# Altium integrated library TI Power Management Power Over Ethernet.IntLib: 76 symbols (part 8 of 9)
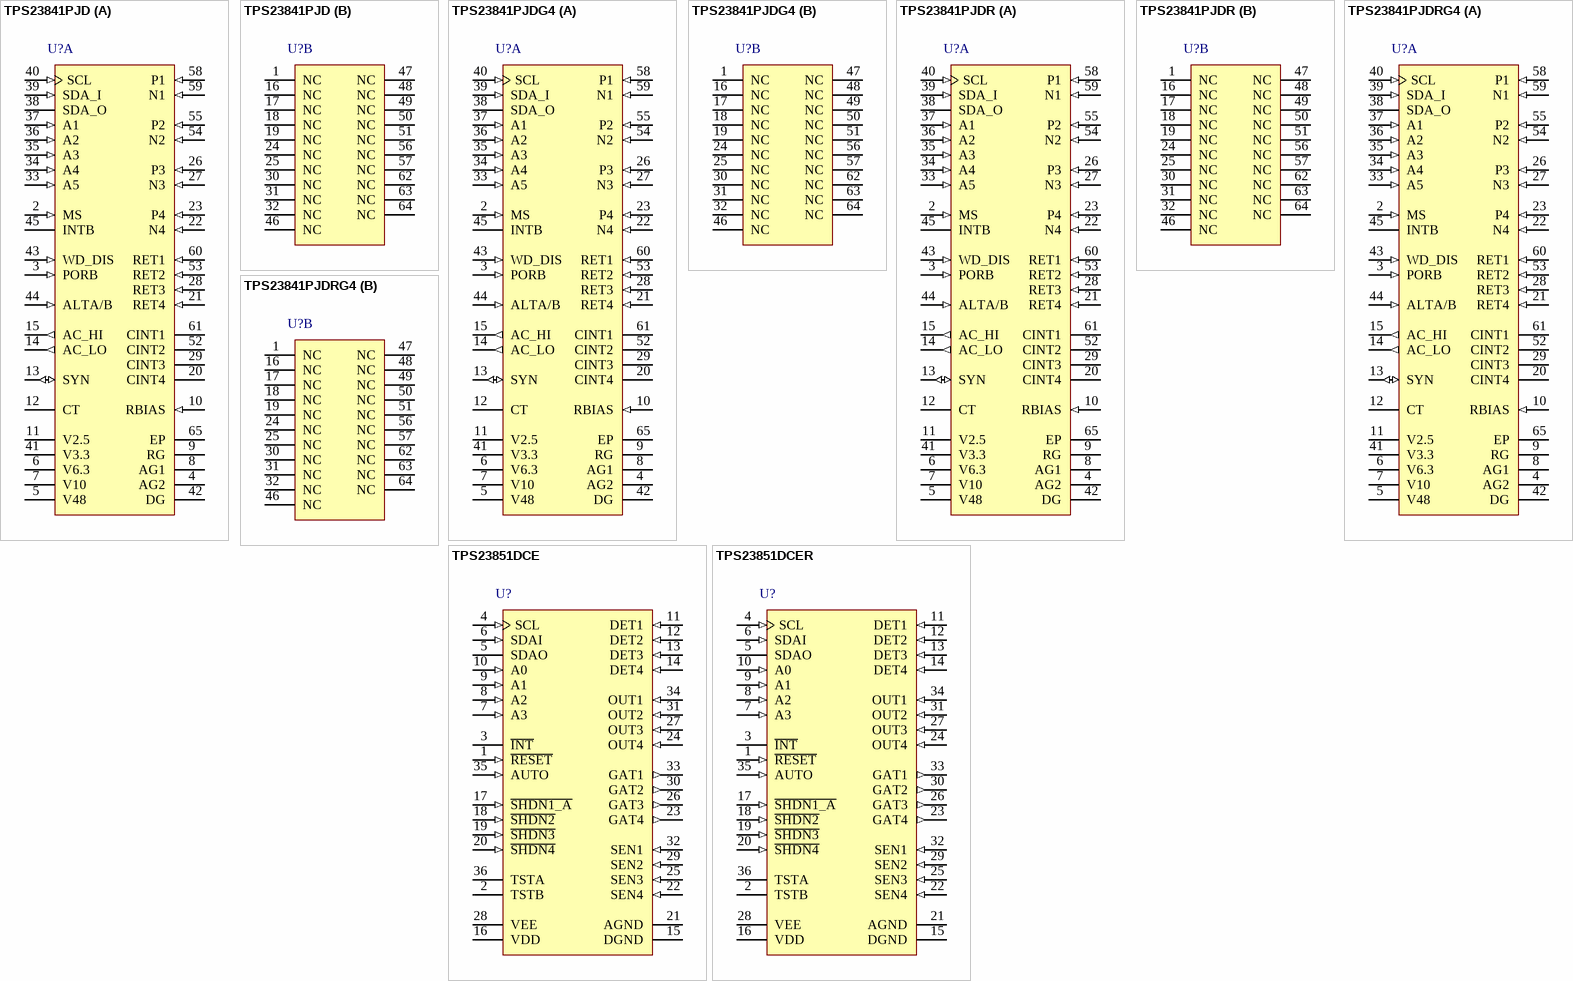
[diagram p10: symbols TPS23841PJD to TPS23851DCER]

## TPS23841PJDG4
designator U?
High Power Wide Voltage Range Quad Port Ethernet Power Sourcing Equipment Manager, -40 to 125 degC, 64-pin QFP (PJD64), Green (RoHS & no Sb/Br); Manufacturer: Texas Instruments; PartNumber: TPS23841PJDG4; Adjustable Current Limit(Min)(A): 0.571; Integrated FET: TRUE; No. of Outputs: 4; rDS(on) per FET(Typ)(mOhms): 1300; Vin(Max)(V): 57; Vin(Min)(V): 34; DatasheetVersion: SLUS745A; PackageVersion: 4147703/E; PackageReference: PJD64-5920X5920TP; PackageDescription: 64-Pin Power Pad Plastic Quad Flatpack (Die Down), Body 10 x 10 mm, Pitch 0.50 mm; Supplier 1: Digi-Key; Supplier Part Number 1: TPS23841PJDG4-ND; Supplier 2: Newark; Supplier Part Number 2: 28M7813; Supplier 3: Mouser; Supplier Part Number 3: 595-TPS23841PJDG4; Eco-Plan: Green (RoHS & no Sb/Br); Over Current Reporting: TRUE; Over Temp Reporting: TRUE; SubFamily: Power Sourcing Equipment; Mounting Technology: Surface Mount; Code_JEDEC: MS-026; ComponentLink1Description: Manufacturer URL; ComponentLink1URL: http://www.ti.com/; ComponentLink2Description: Datasheet; ComponentLink2URL: http://www.ti.com/general/docs/lit/getliterature.tsp?genericPartNumber=TPS23841&fileType=pdf; ComponentLink3Description: Package Specification; ComponentLink3URL: http://www.ti.com/litv/pdf/mpqf072d
footprint TI-PJD64-5920X5920TP_N (QFP, 64-Leads, Body 10x10mm, Pitch 0.5mm, Thermal Pad 5.92x5.92mm, IPC Medium Density)
footprint TI-PJD64-5920X5920TP_L (QFP, 64-Leads, Body 10x10mm, Pitch 0.5mm, Thermal Pad 5.92x5.92mm, IPC High Density)
footprint TI-PJD64-5920X5920TP_M (QFP, 64-Leads, Body 10x10mm, Pitch 0.5mm, Thermal Pad 5.92x5.92mm, IPC Low Density)
part A pins: 2 MS (in) "The MS pin selects either the auto mode (MS low) or the power management mode, PMM, (MS high). This pin can be held low for controller-less standalone applications. When MS is low and the POR timing cycle is complete the (See Datasheet)", 3 PORB (in) "This pin can be used to override the internal POR. When held low, the I2C interface, all the state machines, and registers are held in reset. When all internal and external supplies are withinspecification, and this pin is (See Datasheet)", 4 AG2 (power) "Analog ground 2. This is the analog ground which ties to the substrate and ESD structures of the device. It should be externally tied to the common copper 48-V return plane. AG1 and AG2 must be tied together directly for the (See Datasheet)", 5 V48 (power) "48-V input to the device. This supply can have a range of 22 V to 57 V. This pin should be decoupled with a 0.1-µF capacitor from V48 to AG1 placed as close to the device as possible.", 6 V6.3 (power) "6.3-V analog supply. A 0.1-µF de-coupling capacitor should terminate as close to this pin and the AG1 pin as possible. Do not use for an external supply.", 7 V10 (power) "10-V analog supply. The 10-V reference is generated internally and connects to the main internal analog power bus. A 0.1-µF de-coupling capacitor should terminate as close to this node and the AG1 pin as possible. Do not use (See Datasheet)", 8 AG1 (power) "Analog ground 1. This is the analog ground of the V6.3, V10 and V48 power systems. It should be externally tied to the common copper 48-V return plane. This pin should carry the low side of three de-coupling capacitors tied (See Datasheet)", 9 RG (power) "Reference ground. This is a precision sense of the external ground plane. The integration capacitor GND (CINT) and the biasing resistor (RBIAS pin) should be tied to this ground. This ground should also be used to form a (See Datasheet)", 10 RBIAS (in) "Bias set resistor. This resistor sets all precision bias currents within the chip. This pin will regulate to 1.25V (V2.5/2) when a resistor is connected between RBIAS and RG. This voltage and RBIAS generate a current which (See Datasheet)", 11 V2.5 (power) "2.5-V reference supply. The V2.5 is generated internally and connects to the internal reference power bus. This pin should not be tied to any external supplies. A 0.1-µF de-coupling capacitor should terminate as close to (See Datasheet)", 12 CT "This is a dual-purpose pin. When tied to an external capacitor this pin sets the internal clock. When the CT pin is grounded the SYN pin turns from a output to an input. The timing capacitor and the resistor on the RBIAS pin (See Datasheet)", 13 SYN (io) "This is a dual purpose pin. When the CT pin is connected to a timing capacitor this output pin is a 0v to 3.3V pulse of the internal clock which can be used to drive other TPS23841 SYN pins for elimination of a timing (See Datasheet)", 14 AC_LO (out) "Totem-pole output pin for AC Disconnect excitation.", 15 AC_HI (out) "Totem-pole output pin for AC Disconnect excitation.", 20 CINT4 "Integration capacitor. This capacitor is used for the ramp A/D converter signal integration. Connect A 0.027-µF capacitor from this pin to RG. To minimize errors use a polycarbonate, poly-polypropylene, polystyrene or teflon (See Datasheet)", 21 RET4 (in) "48 V return pin", 22 N4 (in) "Port negative. 48-V load return pin. The low side of the load is switched and protected by internal circuitry that will limit the current.", 23 P4 (in) "Port Positive. 48-V load sense pin. Terminal voltage is monitored and controlled differentially with respect to Port 4 pin Optionally, if the application warrants, this high side path can be protected with the use of a self (See Datasheet)", 26 P3 (in) "Port Positive. 48-V load sense pin. Terminal voltage is monitored and controlled differentially with respect to Port 3 pin Optionally, if the application warrants, this high side path can be protected with the use of a self (See Datasheet)", 27 N3 (in) "Port negative. 48-V load return pin. The low side of the load is switched and protected by internal circuitry that will limit the current.", 28 RET3 (in) "48 V return pin", 29 CINT3 "Integration capacitor. This capacitor is used for the ramp A/D converter signal integration. Connect A 0.027-µF capacitor from this pin to RG. To minimize errors use a polycarbonate, poly-polypropylene, polystyrene or teflon (See Datasheet)", 33 A5 (in) "Address 5 is the I2C address select inputs. Select the appropriate binary address on these pins by connecting to the chip ground for a logic low or tying to the V3.3 pin for a logic high. Each address line has an internal (See Datasheet)", 34 A4 (in) "Address 4 is the I2C address select inputs. Select the appropriate binary address on these pins by connecting to the chip ground for a logic low or tying to the V3.3 pin for a logic high. Each address line has an internal (See Datasheet)", 35 A3 (in) "Address 3 is the I2C address select inputs. Select the appropriate binary address on these pins by connecting to the chip ground for a logic low or tying to the V3.3 pin for a logic high. Each address line has an internal (See Datasheet)", 36 A2 (in) "Address 2 is the I2C address select inputs. Select the appropriate binary address on these pins by connecting to the chip ground for a logic low or tying to the V3.3 pin for a logic high. Each address line has an internal (See Datasheet)", 37 A1 (in) "Address 1 is the I2C address select inputs. Select the appropriate binary address on these pins by connecting to the chip ground for a logic low or tying to the V3.3 pin for a logic high. Each address line has an internal (See Datasheet)", 38 SDA_O (oc) "Serial data open drain output for the I2C interface. When tied to the SDA_I pin, this connection becomes the standard bi-directional serial data line (SDA). This is a open drain output that can directly drive opto-coupler.", 39 SDA_I (in) "Serial data input pin for the I2C interface. When tied to the SDA_O pin, this connection becomes the standard bi-directional serial data line (SDA)", 40 SCL (in) "Serial clock input pin for the I2C interface.", 41 V3.3 (power) "3.3-V logic supply. The 3.3-V supply is generated internally and connects to the internal logic power bus. A 0.1-uìF de coupling capacitor should terminate as close to this node and the DG pin as possible. This output can be (See Datasheet)", 42 DG (power) "Digital ground. This pin connects to the internal logic ground bus. It should be externally tied to the common copper 48-V return plane.", 43 WD_DIS (in) "The WD_DIS pin disables the watchdog timer function when connected to 3.3 V. The pin has internal 50-kohm. resistor to digital ground. The watchdog timer monitors the I2C clock pin (SCL) and the internal oscillator activity (See Datasheet)", 44 ALTA/B (in) "When this input is set to logic low there is no back-off time after a discovery failure. When this pin set to a logic high there is a back-off time (approximately 2 seconds) before initiating another discovery cycle. This (See Datasheet)", 45 INTB (oc) "This is an open-drain output that goes low if a fault condition occurs on any of the 4 ports.", 52 CINT2 "Integration capacitor. This capacitor is used for the ramp A/D converter signal integration. Connect A 0.027-µF capacitor from this pin to RG. To minimize errors use a polycarbonate, poly-polypropylene, polystyrene or teflon (See Datasheet)", 53 RET2 (in) "48 V return pin", 54 N2 (in) "Port negative. 48-V load return pin. The low side of the load is switched and protected by internal circuitry that will limit the current.", 55 P2 (in) "Port Positive. 48-V load sense pin. Terminal voltage is monitored and controlled differentially with respect to Port 2 pin Optionally, if the application warrants, this high side path can be protected with the use of a self (See Datasheet)", 58 P1 (in) "Port Positive. 48-V load sense pin. Terminal voltage is monitored and controlled differentially with respect to Port 1 pin Optionally, if the application warrants, this high side path can be protected with the use of a self (See Datasheet)", 59 N1 (in) "Port negative. 48-V load return pin. The low side of the load is switched and protected by internal circuitry that will limit the current.", 60 RET1 (in) "48 V return pin", 61 CINT1 "Integration capacitor. This capacitor is used for the ramp A/D converter signal integration. Connect A 0.027-µF capacitor from this pin to RG. To minimize errors use a polycarbonate, poly-polypropylene, polystyrene or teflon (See Datasheet)", 65 EP "Exposed Thermal Pad"
part B pins: 1 NC "NIC = No internal connection. Pins are floating. NIC pins can be tied to the ground plane for improved thermal characteristics and to prevent noise injection from unused pins. NIC pins next to CINT pins should be tied to (See Datasheet)", 16 NC "NIC = No internal connection. Pins are floating. NIC pins can be tied to the ground plane for improved thermal characteristics and to prevent noise injection from unused pins. NIC pins next to CINT pins should be tied to (See Datasheet)", 17 NC "NIC = No internal connection. Pins are floating. NIC pins can be tied to the ground plane for improved thermal characteristics and to prevent noise injection from unused pins. NIC pins next to CINT pins should be tied to (See Datasheet)", 18 NC "NIC = No internal connection. Pins are floating. NIC pins can be tied to the ground plane for improved thermal characteristics and to prevent noise injection from unused pins. NIC pins next to CINT pins should be tied to (See Datasheet)", 19 NC "NIC = No internal connection. Pins are floating. NIC pins can be tied to the ground plane for improved thermal characteristics and to prevent noise injection from unused pins. NIC pins next to CINT pins should be tied to (See Datasheet)", 24 NC "NIC = No internal connection. Pins are floating. NIC pins can be tied to the ground plane for improved thermal characteristics and to prevent noise injection from unused pins. NIC pins next to CINT pins should be tied to (See Datasheet)", 25 NC "NIC = No internal connection. Pins are floating. NIC pins can be tied to the ground plane for improved thermal characteristics and to prevent noise injection from unused pins. NIC pins next to CINT pins should be tied to (See Datasheet)", 30 NC "NIC = No internal connection. Pins are floating. NIC pins can be tied to the ground plane for improved thermal characteristics and to prevent noise injection from unused pins. NIC pins next to CINT pins should be tied to (See Datasheet)", 31 NC "NIC = No internal connection. Pins are floating. NIC pins can be tied to the ground plane for improved thermal characteristics and to prevent noise injection from unused pins. NIC pins next to CINT pins should be tied to (See Datasheet)", 32 NC "NIC = No internal connection. Pins are floating. NIC pins can be tied to the ground plane for improved thermal characteristics and to prevent noise injection from unused pins. NIC pins next to CINT pins should be tied to (See Datasheet)", 46 NC "NIC = No internal connection. Pins are floating. NIC pins can be tied to the ground plane for improved thermal characteristics and to prevent noise injection from unused pins. NIC pins next to CINT pins should be tied to (See Datasheet)", 47 NC "NIC = No internal connection. Pins are floating. NIC pins can be tied to the ground plane for improved thermal characteristics and to prevent noise injection from unused pins. NIC pins next to CINT pins should be tied to (See Datasheet)", 48 NC "NIC = No internal connection. Pins are floating. NIC pins can be tied to the ground plane for improved thermal characteristics and to prevent noise injection from unused pins. NIC pins next to CINT pins should be tied to (See Datasheet)", 49 NC "NIC = No internal connection. Pins are floating. NIC pins can be tied to the ground plane for improved thermal characteristics and to prevent noise injection from unused pins. NIC pins next to CINT pins should be tied to (See Datasheet)", 50 NC "NIC = No internal connection. Pins are floating. NIC pins can be tied to the ground plane for improved thermal characteristics and to prevent noise injection from unused pins. NIC pins next to CINT pins should be tied to (See Datasheet)", 51 NC "NIC = No internal connection. Pins are floating. NIC pins can be tied to the ground plane for improved thermal characteristics and to prevent noise injection from unused pins. NIC pins next to CINT pins should be tied to (See Datasheet)", 56 NC "NIC = No internal connection. Pins are floating. NIC pins can be tied to the ground plane for improved thermal characteristics and to prevent noise injection from unused pins. NIC pins next to CINT pins should be tied to (See Datasheet)", 57 NC "NIC = No internal connection. Pins are floating. NIC pins can be tied to the ground plane for improved thermal characteristics and to prevent noise injection from unused pins. NIC pins next to CINT pins should be tied to (See Datasheet)", 62 NC "NIC = No internal connection. Pins are floating. NIC pins can be tied to the ground plane for improved thermal characteristics and to prevent noise injection from unused pins. NIC pins next to CINT pins should be tied to (See Datasheet)", 63 NC "NIC = No internal connection. Pins are floating. NIC pins can be tied to the ground plane for improved thermal characteristics and to prevent noise injection from unused pins. NIC pins next to CINT pins should be tied to (See Datasheet)", 64 NC "NIC = No internal connection. Pins are floating. NIC pins can be tied to the ground plane for improved thermal characteristics and to prevent noise injection from unused pins. NIC pins next to CINT pins should be tied to (See Datasheet)"

## TPS23841PJDR
designator U?
High Power Wide Voltage Range Quad Port Ethernet Power Sourcing Equipment Manager, -40 to 125 degC, 64-pin QFP (PJD64), Green (RoHS & no Sb/Br); Manufacturer: Texas Instruments; PartNumber: TPS23841PJDR; Adjustable Current Limit(Min)(A): 0.571; Integrated FET: TRUE; No. of Outputs: 4; rDS(on) per FET(Typ)(mOhms): 1300; Vin(Max)(V): 57; Vin(Min)(V): 34; DatasheetVersion: SLUS745A; PackageVersion: 4147703/E; PackageReference: PJD64-5920X5920TP; PackageDescription: 64-Pin Power Pad Plastic Quad Flatpack (Die Down), Body 10 x 10 mm, Pitch 0.50 mm; Supplier 1: Digi-Key; Supplier Part Number 1: TPS23841PJDR-ND; Supplier 2: Newark; Supplier Part Number 2: 27M1077; Supplier 3: Mouser; Supplier Part Number 3: 595-TPS23841PJDR; Eco-Plan: Green (RoHS & no Sb/Br); Over Current Reporting: TRUE; Over Temp Reporting: TRUE; SubFamily: Power Sourcing Equipment; Mounting Technology: Surface Mount; Code_JEDEC: MS-026; ComponentLink1Description: Manufacturer URL; ComponentLink1URL: http://www.ti.com/; ComponentLink2Description: Datasheet; ComponentLink2URL: http://www.ti.com/general/docs/lit/getliterature.tsp?genericPartNumber=TPS23841&fileType=pdf; ComponentLink3Description: Package Specification; ComponentLink3URL: http://www.ti.com/litv/pdf/mpqf072d
footprint TI-PJD64-5920X5920TP_N (QFP, 64-Leads, Body 10x10mm, Pitch 0.5mm, Thermal Pad 5.92x5.92mm, IPC Medium Density)
footprint TI-PJD64-5920X5920TP_L (QFP, 64-Leads, Body 10x10mm, Pitch 0.5mm, Thermal Pad 5.92x5.92mm, IPC High Density)
footprint TI-PJD64-5920X5920TP_M (QFP, 64-Leads, Body 10x10mm, Pitch 0.5mm, Thermal Pad 5.92x5.92mm, IPC Low Density)
part A pins: 2 MS (in) "The MS pin selects either the auto mode (MS low) or the power management mode, PMM, (MS high). This pin can be held low for controller-less standalone applications. When MS is low and the POR timing cycle is complete the (See Datasheet)", 3 PORB (in) "This pin can be used to override the internal POR. When held low, the I2C interface, all the state machines, and registers are held in reset. When all internal and external supplies are withinspecification, and this pin is (See Datasheet)", 4 AG2 (power) "Analog ground 2. This is the analog ground which ties to the substrate and ESD structures of the device. It should be externally tied to the common copper 48-V return plane. AG1 and AG2 must be tied together directly for the (See Datasheet)", 5 V48 (power) "48-V input to the device. This supply can have a range of 22 V to 57 V. This pin should be decoupled with a 0.1-µF capacitor from V48 to AG1 placed as close to the device as possible.", 6 V6.3 (power) "6.3-V analog supply. A 0.1-µF de-coupling capacitor should terminate as close to this pin and the AG1 pin as possible. Do not use for an external supply.", 7 V10 (power) "10-V analog supply. The 10-V reference is generated internally and connects to the main internal analog power bus. A 0.1-µF de-coupling capacitor should terminate as close to this node and the AG1 pin as possible. Do not use (See Datasheet)", 8 AG1 (power) "Analog ground 1. This is the analog ground of the V6.3, V10 and V48 power systems. It should be externally tied to the common copper 48-V return plane. This pin should carry the low side of three de-coupling capacitors tied (See Datasheet)", 9 RG (power) "Reference ground. This is a precision sense of the external ground plane. The integration capacitor GND (CINT) and the biasing resistor (RBIAS pin) should be tied to this ground. This ground should also be used to form a (See Datasheet)", 10 RBIAS (in) "Bias set resistor. This resistor sets all precision bias currents within the chip. This pin will regulate to 1.25V (V2.5/2) when a resistor is connected between RBIAS and RG. This voltage and RBIAS generate a current which (See Datasheet)", 11 V2.5 (power) "2.5-V reference supply. The V2.5 is generated internally and connects to the internal reference power bus. This pin should not be tied to any external supplies. A 0.1-µF de-coupling capacitor should terminate as close to (See Datasheet)", 12 CT "This is a dual-purpose pin. When tied to an external capacitor this pin sets the internal clock. When the CT pin is grounded the SYN pin turns from a output to an input. The timing capacitor and the resistor on the RBIAS pin (See Datasheet)", 13 SYN (io) "This is a dual purpose pin. When the CT pin is connected to a timing capacitor this output pin is a 0v to 3.3V pulse of the internal clock which can be used to drive other TPS23841 SYN pins for elimination of a timing (See Datasheet)", 14 AC_LO (out) "Totem-pole output pin for AC Disconnect excitation.", 15 AC_HI (out) "Totem-pole output pin for AC Disconnect excitation.", 20 CINT4 "Integration capacitor. This capacitor is used for the ramp A/D converter signal integration. Connect A 0.027-µF capacitor from this pin to RG. To minimize errors use a polycarbonate, poly-polypropylene, polystyrene or teflon (See Datasheet)", 21 RET4 (in) "48 V return pin", 22 N4 (in) "Port negative. 48-V load return pin. The low side of the load is switched and protected by internal circuitry that will limit the current.", 23 P4 (in) "Port Positive. 48-V load sense pin. Terminal voltage is monitored and controlled differentially with respect to Port 4 pin Optionally, if the application warrants, this high side path can be protected with the use of a self (See Datasheet)", 26 P3 (in) "Port Positive. 48-V load sense pin. Terminal voltage is monitored and controlled differentially with respect to Port 3 pin Optionally, if the application warrants, this high side path can be protected with the use of a self (See Datasheet)", 27 N3 (in) "Port negative. 48-V load return pin. The low side of the load is switched and protected by internal circuitry that will limit the current.", 28 RET3 (in) "48 V return pin", 29 CINT3 "Integration capacitor. This capacitor is used for the ramp A/D converter signal integration. Connect A 0.027-µF capacitor from this pin to RG. To minimize errors use a polycarbonate, poly-polypropylene, polystyrene or teflon (See Datasheet)", 33 A5 (in) "Address 5 is the I2C address select inputs. Select the appropriate binary address on these pins by connecting to the chip ground for a logic low or tying to the V3.3 pin for a logic high. Each address line has an internal (See Datasheet)", 34 A4 (in) "Address 4 is the I2C address select inputs. Select the appropriate binary address on these pins by connecting to the chip ground for a logic low or tying to the V3.3 pin for a logic high. Each address line has an internal (See Datasheet)", 35 A3 (in) "Address 3 is the I2C address select inputs. Select the appropriate binary address on these pins by connecting to the chip ground for a logic low or tying to the V3.3 pin for a logic high. Each address line has an internal (See Datasheet)", 36 A2 (in) "Address 2 is the I2C address select inputs. Select the appropriate binary address on these pins by connecting to the chip ground for a logic low or tying to the V3.3 pin for a logic high. Each address line has an internal (See Datasheet)", 37 A1 (in) "Address 1 is the I2C address select inputs. Select the appropriate binary address on these pins by connecting to the chip ground for a logic low or tying to the V3.3 pin for a logic high. Each address line has an internal (See Datasheet)", 38 SDA_O (oc) "Serial data open drain output for the I2C interface. When tied to the SDA_I pin, this connection becomes the standard bi-directional serial data line (SDA). This is a open drain output that can directly drive opto-coupler.", 39 SDA_I (in) "Serial data input pin for the I2C interface. When tied to the SDA_O pin, this connection becomes the standard bi-directional serial data line (SDA)", 40 SCL (in) "Serial clock input pin for the I2C interface.", 41 V3.3 (power) "3.3-V logic supply. The 3.3-V supply is generated internally and connects to the internal logic power bus. A 0.1-uìF de coupling capacitor should terminate as close to this node and the DG pin as possible. This output can be (See Datasheet)", 42 DG (power) "Digital ground. This pin connects to the internal logic ground bus. It should be externally tied to the common copper 48-V return plane.", 43 WD_DIS (in) "The WD_DIS pin disables the watchdog timer function when connected to 3.3 V. The pin has internal 50-kohm. resistor to digital ground. The watchdog timer monitors the I2C clock pin (SCL) and the internal oscillator activity (See Datasheet)", 44 ALTA/B (in) "When this input is set to logic low there is no back-off time after a discovery failure. When this pin set to a logic high there is a back-off time (approximately 2 seconds) before initiating another discovery cycle. This (See Datasheet)", 45 INTB (oc) "This is an open-drain output that goes low if a fault condition occurs on any of the 4 ports.", 52 CINT2 "Integration capacitor. This capacitor is used for the ramp A/D converter signal integration. Connect A 0.027-µF capacitor from this pin to RG. To minimize errors use a polycarbonate, poly-polypropylene, polystyrene or teflon (See Datasheet)", 53 RET2 (in) "48 V return pin", 54 N2 (in) "Port negative. 48-V load return pin. The low side of the load is switched and protected by internal circuitry that will limit the current.", 55 P2 (in) "Port Positive. 48-V load sense pin. Terminal voltage is monitored and controlled differentially with respect to Port 2 pin Optionally, if the application warrants, this high side path can be protected with the use of a self (See Datasheet)", 58 P1 (in) "Port Positive. 48-V load sense pin. Terminal voltage is monitored and controlled differentially with respect to Port 1 pin Optionally, if the application warrants, this high side path can be protected with the use of a self (See Datasheet)", 59 N1 (in) "Port negative. 48-V load return pin. The low side of the load is switched and protected by internal circuitry that will limit the current.", 60 RET1 (in) "48 V return pin", 61 CINT1 "Integration capacitor. This capacitor is used for the ramp A/D converter signal integration. Connect A 0.027-µF capacitor from this pin to RG. To minimize errors use a polycarbonate, poly-polypropylene, polystyrene or teflon (See Datasheet)", 65 EP "Exposed Thermal Pad"
part B pins: 1 NC "NIC = No internal connection. Pins are floating. NIC pins can be tied to the ground plane for improved thermal characteristics and to prevent noise injection from unused pins. NIC pins next to CINT pins should be tied to (See Datasheet)", 16 NC "NIC = No internal connection. Pins are floating. NIC pins can be tied to the ground plane for improved thermal characteristics and to prevent noise injection from unused pins. NIC pins next to CINT pins should be tied to (See Datasheet)", 17 NC "NIC = No internal connection. Pins are floating. NIC pins can be tied to the ground plane for improved thermal characteristics and to prevent noise injection from unused pins. NIC pins next to CINT pins should be tied to (See Datasheet)", 18 NC "NIC = No internal connection. Pins are floating. NIC pins can be tied to the ground plane for improved thermal characteristics and to prevent noise injection from unused pins. NIC pins next to CINT pins should be tied to (See Datasheet)", 19 NC "NIC = No internal connection. Pins are floating. NIC pins can be tied to the ground plane for improved thermal characteristics and to prevent noise injection from unused pins. NIC pins next to CINT pins should be tied to (See Datasheet)", 24 NC "NIC = No internal connection. Pins are floating. NIC pins can be tied to the ground plane for improved thermal characteristics and to prevent noise injection from unused pins. NIC pins next to CINT pins should be tied to (See Datasheet)", 25 NC "NIC = No internal connection. Pins are floating. NIC pins can be tied to the ground plane for improved thermal characteristics and to prevent noise injection from unused pins. NIC pins next to CINT pins should be tied to (See Datasheet)", 30 NC "NIC = No internal connection. Pins are floating. NIC pins can be tied to the ground plane for improved thermal characteristics and to prevent noise injection from unused pins. NIC pins next to CINT pins should be tied to (See Datasheet)", 31 NC "NIC = No internal connection. Pins are floating. NIC pins can be tied to the ground plane for improved thermal characteristics and to prevent noise injection from unused pins. NIC pins next to CINT pins should be tied to (See Datasheet)", 32 NC "NIC = No internal connection. Pins are floating. NIC pins can be tied to the ground plane for improved thermal characteristics and to prevent noise injection from unused pins. NIC pins next to CINT pins should be tied to (See Datasheet)", 46 NC "NIC = No internal connection. Pins are floating. NIC pins can be tied to the ground plane for improved thermal characteristics and to prevent noise injection from unused pins. NIC pins next to CINT pins should be tied to (See Datasheet)", 47 NC "NIC = No internal connection. Pins are floating. NIC pins can be tied to the ground plane for improved thermal characteristics and to prevent noise injection from unused pins. NIC pins next to CINT pins should be tied to (See Datasheet)", 48 NC "NIC = No internal connection. Pins are floating. NIC pins can be tied to the ground plane for improved thermal characteristics and to prevent noise injection from unused pins. NIC pins next to CINT pins should be tied to (See Datasheet)", 49 NC "NIC = No internal connection. Pins are floating. NIC pins can be tied to the ground plane for improved thermal characteristics and to prevent noise injection from unused pins. NIC pins next to CINT pins should be tied to (See Datasheet)", 50 NC "NIC = No internal connection. Pins are floating. NIC pins can be tied to the ground plane for improved thermal characteristics and to prevent noise injection from unused pins. NIC pins next to CINT pins should be tied to (See Datasheet)", 51 NC "NIC = No internal connection. Pins are floating. NIC pins can be tied to the ground plane for improved thermal characteristics and to prevent noise injection from unused pins. NIC pins next to CINT pins should be tied to (See Datasheet)", 56 NC "NIC = No internal connection. Pins are floating. NIC pins can be tied to the ground plane for improved thermal characteristics and to prevent noise injection from unused pins. NIC pins next to CINT pins should be tied to (See Datasheet)", 57 NC "NIC = No internal connection. Pins are floating. NIC pins can be tied to the ground plane for improved thermal characteristics and to prevent noise injection from unused pins. NIC pins next to CINT pins should be tied to (See Datasheet)", 62 NC "NIC = No internal connection. Pins are floating. NIC pins can be tied to the ground plane for improved thermal characteristics and to prevent noise injection from unused pins. NIC pins next to CINT pins should be tied to (See Datasheet)", 63 NC "NIC = No internal connection. Pins are floating. NIC pins can be tied to the ground plane for improved thermal characteristics and to prevent noise injection from unused pins. NIC pins next to CINT pins should be tied to (See Datasheet)", 64 NC "NIC = No internal connection. Pins are floating. NIC pins can be tied to the ground plane for improved thermal characteristics and to prevent noise injection from unused pins. NIC pins next to CINT pins should be tied to (See Datasheet)"

## TPS23841PJDRG4
designator U?
High Power Wide Voltage Range Quad Port Ethernet Power Sourcing Equipment Manager, -40 to 125 degC, 64-pin QFP (PJD64), Green (RoHS & no Sb/Br); Manufacturer: Texas Instruments; PartNumber: TPS23841PJDRG4; Adjustable Current Limit(Min)(A): 0.571; Integrated FET: TRUE; No. of Outputs: 4; rDS(on) per FET(Typ)(mOhms): 1300; Vin(Max)(V): 57; Vin(Min)(V): 34; DatasheetVersion: SLUS745A; PackageVersion: 4147703/E; PackageReference: PJD64-5920X5920TP; PackageDescription: 64-Pin Power Pad Plastic Quad Flatpack (Die Down), Body 10 x 10 mm, Pitch 0.50 mm; Supplier 1: Digi-Key; Supplier Part Number 1: TPS23841PJDRG4-ND; Supplier 2: Newark; Supplier Part Number 2: 28M7814; Supplier 3: Mouser; Supplier Part Number 3: 595-TPS23841PJDRG4; Eco-Plan: Green (RoHS & no Sb/Br); Over Current Reporting: TRUE; Over Temp Reporting: TRUE; SubFamily: Power Sourcing Equipment; Mounting Technology: Surface Mount; Code_JEDEC: MS-026; ComponentLink1Description: Manufacturer URL; ComponentLink1URL: http://www.ti.com/; ComponentLink2Description: Datasheet; ComponentLink2URL: http://www.ti.com/general/docs/lit/getliterature.tsp?genericPartNumber=TPS23841&fileType=pdf; ComponentLink3Description: Package Specification; ComponentLink3URL: http://www.ti.com/litv/pdf/mpqf072d
footprint TI-PJD64-5920X5920TP_N (QFP, 64-Leads, Body 10x10mm, Pitch 0.5mm, Thermal Pad 5.92x5.92mm, IPC Medium Density)
footprint TI-PJD64-5920X5920TP_L (QFP, 64-Leads, Body 10x10mm, Pitch 0.5mm, Thermal Pad 5.92x5.92mm, IPC High Density)
footprint TI-PJD64-5920X5920TP_M (QFP, 64-Leads, Body 10x10mm, Pitch 0.5mm, Thermal Pad 5.92x5.92mm, IPC Low Density)
part A pins: 2 MS (in) "The MS pin selects either the auto mode (MS low) or the power management mode, PMM, (MS high). This pin can be held low for controller-less standalone applications. When MS is low and the POR timing cycle is complete the (See Datasheet)", 3 PORB (in) "This pin can be used to override the internal POR. When held low, the I2C interface, all the state machines, and registers are held in reset. When all internal and external supplies are withinspecification, and this pin is (See Datasheet)", 4 AG2 (power) "Analog ground 2. This is the analog ground which ties to the substrate and ESD structures of the device. It should be externally tied to the common copper 48-V return plane. AG1 and AG2 must be tied together directly for the (See Datasheet)", 5 V48 (power) "48-V input to the device. This supply can have a range of 22 V to 57 V. This pin should be decoupled with a 0.1-µF capacitor from V48 to AG1 placed as close to the device as possible.", 6 V6.3 (power) "6.3-V analog supply. A 0.1-µF de-coupling capacitor should terminate as close to this pin and the AG1 pin as possible. Do not use for an external supply.", 7 V10 (power) "10-V analog supply. The 10-V reference is generated internally and connects to the main internal analog power bus. A 0.1-µF de-coupling capacitor should terminate as close to this node and the AG1 pin as possible. Do not use (See Datasheet)", 8 AG1 (power) "Analog ground 1. This is the analog ground of the V6.3, V10 and V48 power systems. It should be externally tied to the common copper 48-V return plane. This pin should carry the low side of three de-coupling capacitors tied (See Datasheet)", 9 RG (power) "Reference ground. This is a precision sense of the external ground plane. The integration capacitor GND (CINT) and the biasing resistor (RBIAS pin) should be tied to this ground. This ground should also be used to form a (See Datasheet)", 10 RBIAS (in) "Bias set resistor. This resistor sets all precision bias currents within the chip. This pin will regulate to 1.25V (V2.5/2) when a resistor is connected between RBIAS and RG. This voltage and RBIAS generate a current which (See Datasheet)", 11 V2.5 (power) "2.5-V reference supply. The V2.5 is generated internally and connects to the internal reference power bus. This pin should not be tied to any external supplies. A 0.1-µF de-coupling capacitor should terminate as close to (See Datasheet)", 12 CT "This is a dual-purpose pin. When tied to an external capacitor this pin sets the internal clock. When the CT pin is grounded the SYN pin turns from a output to an input. The timing capacitor and the resistor on the RBIAS pin (See Datasheet)", 13 SYN (io) "This is a dual purpose pin. When the CT pin is connected to a timing capacitor this output pin is a 0v to 3.3V pulse of the internal clock which can be used to drive other TPS23841 SYN pins for elimination of a timing (See Datasheet)", 14 AC_LO (out) "Totem-pole output pin for AC Disconnect excitation.", 15 AC_HI (out) "Totem-pole output pin for AC Disconnect excitation.", 20 CINT4 "Integration capacitor. This capacitor is used for the ramp A/D converter signal integration. Connect A 0.027-µF capacitor from this pin to RG. To minimize errors use a polycarbonate, poly-polypropylene, polystyrene or teflon (See Datasheet)", 21 RET4 (in) "48 V return pin", 22 N4 (in) "Port negative. 48-V load return pin. The low side of the load is switched and protected by internal circuitry that will limit the current.", 23 P4 (in) "Port Positive. 48-V load sense pin. Terminal voltage is monitored and controlled differentially with respect to Port 4 pin Optionally, if the application warrants, this high side path can be protected with the use of a self (See Datasheet)", 26 P3 (in) "Port Positive. 48-V load sense pin. Terminal voltage is monitored and controlled differentially with respect to Port 3 pin Optionally, if the application warrants, this high side path can be protected with the use of a self (See Datasheet)", 27 N3 (in) "Port negative. 48-V load return pin. The low side of the load is switched and protected by internal circuitry that will limit the current.", 28 RET3 (in) "48 V return pin", 29 CINT3 "Integration capacitor. This capacitor is used for the ramp A/D converter signal integration. Connect A 0.027-µF capacitor from this pin to RG. To minimize errors use a polycarbonate, poly-polypropylene, polystyrene or teflon (See Datasheet)", 33 A5 (in) "Address 5 is the I2C address select inputs. Select the appropriate binary address on these pins by connecting to the chip ground for a logic low or tying to the V3.3 pin for a logic high. Each address line has an internal (See Datasheet)", 34 A4 (in) "Address 4 is the I2C address select inputs. Select the appropriate binary address on these pins by connecting to the chip ground for a logic low or tying to the V3.3 pin for a logic high. Each address line has an internal (See Datasheet)", 35 A3 (in) "Address 3 is the I2C address select inputs. Select the appropriate binary address on these pins by connecting to the chip ground for a logic low or tying to the V3.3 pin for a logic high. Each address line has an internal (See Datasheet)", 36 A2 (in) "Address 2 is the I2C address select inputs. Select the appropriate binary address on these pins by connecting to the chip ground for a logic low or tying to the V3.3 pin for a logic high. Each address line has an internal (See Datasheet)", 37 A1 (in) "Address 1 is the I2C address select inputs. Select the appropriate binary address on these pins by connecting to the chip ground for a logic low or tying to the V3.3 pin for a logic high. Each address line has an internal (See Datasheet)", 38 SDA_O (oc) "Serial data open drain output for the I2C interface. When tied to the SDA_I pin, this connection becomes the standard bi-directional serial data line (SDA). This is a open drain output that can directly drive opto-coupler.", 39 SDA_I (in) "Serial data input pin for the I2C interface. When tied to the SDA_O pin, this connection becomes the standard bi-directional serial data line (SDA)", 40 SCL (in) "Serial clock input pin for the I2C interface.", 41 V3.3 (power) "3.3-V logic supply. The 3.3-V supply is generated internally and connects to the internal logic power bus. A 0.1-uìF de coupling capacitor should terminate as close to this node and the DG pin as possible. This output can be (See Datasheet)", 42 DG (power) "Digital ground. This pin connects to the internal logic ground bus. It should be externally tied to the common copper 48-V return plane.", 43 WD_DIS (in) "The WD_DIS pin disables the watchdog timer function when connected to 3.3 V. The pin has internal 50-kohm. resistor to digital ground. The watchdog timer monitors the I2C clock pin (SCL) and the internal oscillator activity (See Datasheet)", 44 ALTA/B (in) "When this input is set to logic low there is no back-off time after a discovery failure. When this pin set to a logic high there is a back-off time (approximately 2 seconds) before initiating another discovery cycle. This (See Datasheet)", 45 INTB (oc) "This is an open-drain output that goes low if a fault condition occurs on any of the 4 ports.", 52 CINT2 "Integration capacitor. This capacitor is used for the ramp A/D converter signal integration. Connect A 0.027-µF capacitor from this pin to RG. To minimize errors use a polycarbonate, poly-polypropylene, polystyrene or teflon (See Datasheet)", 53 RET2 (in) "48 V return pin", 54 N2 (in) "Port negative. 48-V load return pin. The low side of the load is switched and protected by internal circuitry that will limit the current.", 55 P2 (in) "Port Positive. 48-V load sense pin. Terminal voltage is monitored and controlled differentially with respect to Port 2 pin Optionally, if the application warrants, this high side path can be protected with the use of a self (See Datasheet)", 58 P1 (in) "Port Positive. 48-V load sense pin. Terminal voltage is monitored and controlled differentially with respect to Port 1 pin Optionally, if the application warrants, this high side path can be protected with the use of a self (See Datasheet)", 59 N1 (in) "Port negative. 48-V load return pin. The low side of the load is switched and protected by internal circuitry that will limit the current.", 60 RET1 (in) "48 V return pin", 61 CINT1 "Integration capacitor. This capacitor is used for the ramp A/D converter signal integration. Connect A 0.027-µF capacitor from this pin to RG. To minimize errors use a polycarbonate, poly-polypropylene, polystyrene or teflon (See Datasheet)", 65 EP "Exposed Thermal Pad"
part B pins: 1 NC "NIC = No internal connection. Pins are floating. NIC pins can be tied to the ground plane for improved thermal characteristics and to prevent noise injection from unused pins. NIC pins next to CINT pins should be tied to (See Datasheet)", 16 NC "NIC = No internal connection. Pins are floating. NIC pins can be tied to the ground plane for improved thermal characteristics and to prevent noise injection from unused pins. NIC pins next to CINT pins should be tied to (See Datasheet)", 17 NC "NIC = No internal connection. Pins are floating. NIC pins can be tied to the ground plane for improved thermal characteristics and to prevent noise injection from unused pins. NIC pins next to CINT pins should be tied to (See Datasheet)", 18 NC "NIC = No internal connection. Pins are floating. NIC pins can be tied to the ground plane for improved thermal characteristics and to prevent noise injection from unused pins. NIC pins next to CINT pins should be tied to (See Datasheet)", 19 NC "NIC = No internal connection. Pins are floating. NIC pins can be tied to the ground plane for improved thermal characteristics and to prevent noise injection from unused pins. NIC pins next to CINT pins should be tied to (See Datasheet)", 24 NC "NIC = No internal connection. Pins are floating. NIC pins can be tied to the ground plane for improved thermal characteristics and to prevent noise injection from unused pins. NIC pins next to CINT pins should be tied to (See Datasheet)", 25 NC "NIC = No internal connection. Pins are floating. NIC pins can be tied to the ground plane for improved thermal characteristics and to prevent noise injection from unused pins. NIC pins next to CINT pins should be tied to (See Datasheet)", 30 NC "NIC = No internal connection. Pins are floating. NIC pins can be tied to the ground plane for improved thermal characteristics and to prevent noise injection from unused pins. NIC pins next to CINT pins should be tied to (See Datasheet)", 31 NC "NIC = No internal connection. Pins are floating. NIC pins can be tied to the ground plane for improved thermal characteristics and to prevent noise injection from unused pins. NIC pins next to CINT pins should be tied to (See Datasheet)", 32 NC "NIC = No internal connection. Pins are floating. NIC pins can be tied to the ground plane for improved thermal characteristics and to prevent noise injection from unused pins. NIC pins next to CINT pins should be tied to (See Datasheet)", 46 NC "NIC = No internal connection. Pins are floating. NIC pins can be tied to the ground plane for improved thermal characteristics and to prevent noise injection from unused pins. NIC pins next to CINT pins should be tied to (See Datasheet)", 47 NC "NIC = No internal connection. Pins are floating. NIC pins can be tied to the ground plane for improved thermal characteristics and to prevent noise injection from unused pins. NIC pins next to CINT pins should be tied to (See Datasheet)", 48 NC "NIC = No internal connection. Pins are floating. NIC pins can be tied to the ground plane for improved thermal characteristics and to prevent noise injection from unused pins. NIC pins next to CINT pins should be tied to (See Datasheet)", 49 NC "NIC = No internal connection. Pins are floating. NIC pins can be tied to the ground plane for improved thermal characteristics and to prevent noise injection from unused pins. NIC pins next to CINT pins should be tied to (See Datasheet)", 50 NC "NIC = No internal connection. Pins are floating. NIC pins can be tied to the ground plane for improved thermal characteristics and to prevent noise injection from unused pins. NIC pins next to CINT pins should be tied to (See Datasheet)", 51 NC "NIC = No internal connection. Pins are floating. NIC pins can be tied to the ground plane for improved thermal characteristics and to prevent noise injection from unused pins. NIC pins next to CINT pins should be tied to (See Datasheet)", 56 NC "NIC = No internal connection. Pins are floating. NIC pins can be tied to the ground plane for improved thermal characteristics and to prevent noise injection from unused pins. NIC pins next to CINT pins should be tied to (See Datasheet)", 57 NC "NIC = No internal connection. Pins are floating. NIC pins can be tied to the ground plane for improved thermal characteristics and to prevent noise injection from unused pins. NIC pins next to CINT pins should be tied to (See Datasheet)", 62 NC "NIC = No internal connection. Pins are floating. NIC pins can be tied to the ground plane for improved thermal characteristics and to prevent noise injection from unused pins. NIC pins next to CINT pins should be tied to (See Datasheet)", 63 NC "NIC = No internal connection. Pins are floating. NIC pins can be tied to the ground plane for improved thermal characteristics and to prevent noise injection from unused pins. NIC pins next to CINT pins should be tied to (See Datasheet)", 64 NC "NIC = No internal connection. Pins are floating. NIC pins can be tied to the ground plane for improved thermal characteristics and to prevent noise injection from unused pins. NIC pins next to CINT pins should be tied to (See Datasheet)"